# Altium schematic symbol library RetroPie-CM3.SchLib: 18 symbols
Pins are listed as number, name and electrical type; pins without a type are passive.

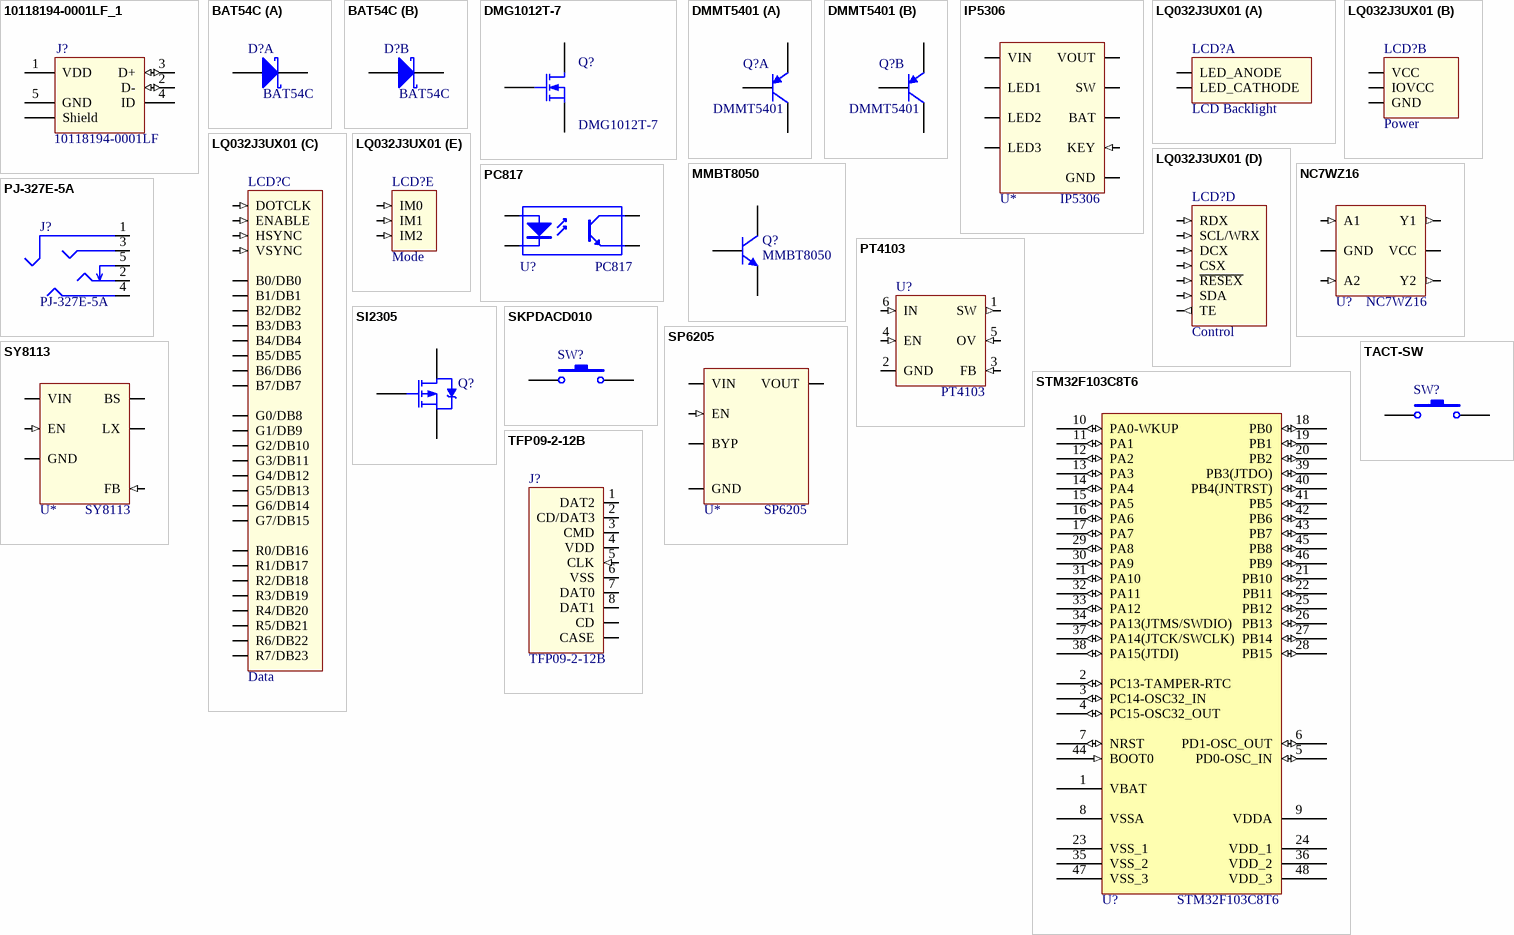
[diagram p0: symbols 10118194-0001LF_1 to TFP09-2-12B]

## 10118194-0001LF_1
designator J?, comment 10118194-0001LF
Conn Micro USB Type B RCP 5 POS 0.65mm Solder RA SMD 5 Terminal 1 Port T/R; MF: FCI; RS: 714-2347; Availability: Good; Price: 0.23 USD; MP: 10118194-0001LF; Package: DIP-4 FCI; Value: *
footprint 10103594-0001LF (Amphenol FCI Right Angle SMT Type B Version 2.0 Micro USB Connector Socket, 100 V ac, 1.8A)
pins: 1 VDD (power), 2 D- (io), 3 D+ (io), 4 ID, 5 GND (power), 6 Shield (power), 7 Shield (power), 8 Shield (power), 9 Shield (power)

## BAT54C
designator D?
Dual Schottky Diode Common Cathode; Published: 8-Jun-2000; LatestRevisionDate: 17-Jul-2002; LatestRevisionNote: Re-released for DXP Platform.; PackageVersion: Sep-1996; PackageReference: SMC; Publisher: Altium Limited; PackageDescription: DO-214-AB/SMC; 2 C-Bend Leads; Body 7.9 x 5.9 mm, inc. leads (LxW); Code_JEDEC: DO-214-AB
simulation model DIODE (Diode)
signal-integrity model Diode
footprint SOT23-3N (SOT23, 3-Leads, Body 2.9x1.3mm, Pitch 0.95mm, Lead Span 2.5mm, IPC Medium Density)
part A pins: 1 A, 3 K
part B pins: 2 A, 3 K

## DMG1012T-7
designator Q?
MOSFET N-Channel 20V 0.63A SOT523 Diodes Inc DMG1012T-7 N-channel MOSFET Transistor, 0.63 A, 20 V, 3-Pin SOT-523; Manufacturer_Name: Diodes Inc.; Geometry.Height: 0.8mm; Supplier_Name: RS; RS Part Number: 7514064; Manufacturer_Part_Number: DMG1012T-7; Allied_Number: *; Other Part Number: *; Datasheet Link: https://www.diodes.com/assets/Datasheets/ds31783.pdf; 3D Package: *
footprint SOT50P160X80-3N
pins: 1 G, 2 S, 3 D

## DMMT5401
designator Q?
Dual PNP Matched BJTs
footprint SOT26A-6L (SOT23, 6-Leads, Body 2.9x1.7mm, Pitch 0.95mm, Lead Span 2.8mm, IPC High Density)
part A pins: 1 C, 2 B, 6 E
part B pins: 3 B, 4 C, 5 E

## IP5306
designator U*
USB PMIC
footprint ESOP8 (ESOP8 for IP5306 PMIC)
pins: 1 VIN (power), 2 LED1 (io), 3 LED2 (io), 4 LED3 (io), 5 KEY (in), 6 BAT (power), 7 SW (io), 8 VOUT (power), 9 GND (power)

## LQ032J3UX01
designator LCD?  (value not drawn)
LQ032J3UX01 320*480 3.2" IPS LCD Screen; ComponentLink1Description: Source; ComponentLink1URL: https://item.taobao.com/item.htm?id=555728678341
part A pins: 1 LED_ANODE (power), 2 LED_CATHODE (power)
part B pins: 3 GND (power), 4 VCC (power), 5 IOVCC (power), 7 GND (power), 16 GND (power), 25 GND (power), 34 GND (power), 36 GND (power), 49 GND (power)
part C pins: 8 B0/DB0 (io), 9 B1/DB1 (io), 10 B2/DB2 (io), 11 B3/DB3 (io), 12 B4/DB4 (io), 13 B5/DB5 (io), 14 B6/DB6 (io), 15 B7/DB7 (io), 17 G0/DB8 (io), 18 G1/DB9 (io), 19 G2/DB10 (io), 20 G3/DB11 (io), 21 G4/DB12 (io), 22 G5/DB13 (io), 23 G6/DB14 (io), 24 G7/DB15 (io), 26 R0/DB16 (io), 27 R1/DB17 (io), 28 R2/DB18 (io), 29 R3/DB19 (io), 30 R4/DB20 (io), 31 R5/DB21 (io), 32 R6/DB22 (io), 33 R7/DB23 (io), 35 DOTCLK (in), 37 ENABLE (in), 38 HSYNC (in), 39 VSYNC (in)
part D pins: 6 TE (out), 40 RDX (in), 41 SCL/WRX (in), 42 DCX (in), 43 CSX (in), 44 ~{RESEX} (in), 45 SDA (in)
part E pins: 46 IM0 (in), 47 IM1 (in), 48 IM2 (in)
part A text: LCD Backlight
part B text: Power
part C text: Data
part D text: Control
part E text: Mode

## MMBT8050
designator Q?
NPN General Purpose Amplifier; Published: 8-Jun-2000; LatestRevisionDate: 15-Jan-2003; LatestRevisionNote: PCB Footprint 'BCY-W3/D4.7' replaced; DatasheetVersion: 1997; PackageVersion: Sep-1998; PackageReference: SOT23; Publisher: Altium Limited; PackageDescription: TO, Flat Index; 3 In-Line, Axial Leads; Body Dia. 4.5mm; Leads 0.51 x 0.48 mm (max); ComponentLink1Description: Manufacturer Link; ComponentLink1URL: http://www.fairchildsemi.com/; ComponentLink2Description: Datasheet; ComponentLink2URL: http://www.fairchildsemi.com/ds/2N%2F2N3904.pdf
footprint SOT23-3N (SOT23, 3-Leads, Body 2.9x1.3mm, Pitch 0.95mm, Lead Span 2.5mm, IPC Medium Density)
pins: 1 B, 2 E, 3 C

## NC7WZ16
designator U?
UHS Dual Buffer
footprint SC-88
pins: 1 A1 (in), 2 GND (power), 3 A2 (in), 4 Y2 (out), 5 VCC (power), 6 Y1 (out)

## PC817
designator U?
4-Pin Phototransistor Optocoupler; Published: 24-Mar-1999; LatestRevisionDate: 04-Mar-2005; LatestRevisionNote: Sch pins 3 & 4 Swapped.; DatasheetVersion: Nov-2003; PackageReference: DIP-4; Publisher: Altium Limited
footprint PC817
pins: 1 A "Anode", 2 K "Cathode", 3 E "Emitter", 4 C "Collector"

## PJ-327E-5A
designator J?
TRRS 3.5mm Socket SMT
footprint PJ-327E (TRRS 3.5mm Socket)
pins: 1, 2, 3, 4, 5

## PT4103
designator U?
Constant Current LED Step-Up Converter
footprint SOT26A-6L (SOT23, 6-Leads, Body 2.9x1.7mm, Pitch 0.95mm, Lead Span 2.8mm, IPC High Density)
pins: 1 SW (out), 2 GND (power), 3 FB (in), 4 EN (in), 5 OV (in), 6 IN (in)

## SI2305
designator Q?
P-Channel Power MOSFET; Note: Pin 4 not drawn and electrically connected to Pin 2.; Published: 8-Jun-2000; LatestRevisionDate: 17-Jul-2002; LatestRevisionNote: Re-released for DXP Platform.; DatasheetVersion: PD-9.390D; PackageVersion: Feb-1997; PackageReference: TO-220AB; Publisher: Altium Limited; PackageDescription: TO, Thru-Hole, Vertical, Heatsink Mounted; 3 In-Line Leads; Pitch 2.54 mm; ComponentLink1Description: Manufacturer Link; ComponentLink1URL: http://www.irf.com/
simulation model IRF9510 (Spice Subcircuit)
footprint SOT23-3N (SOT23, 3-Leads, Body 2.9x1.3mm, Pitch 0.95mm, Lead Span 2.5mm, IPC Medium Density)
pins: 1 G, 2 S, 3 D

## SKPDACD010
designator SW?
ALPS Tacatile Switch; Published: 24-Mar-1999; LatestRevisionDate: 17-Jul-2002; LatestRevisionNote: Re-released for DXP Platform.; PackageReference: SPST-2; Publisher: Altium Limited; PackageDescription: Switch; 2 Leads
footprint ALPS_8X8X5.5
footprint ALPS_8X8X5.5-SIDE
pins: 1, 2

## SP6205
designator U*
footprint SOT23-5AL (SOT23, 5-Leads, Body 2.9x1.6mm, Pitch 0.95mm, Lead Span 2.8mm, IPC High Densit)
pins: 1 VIN (power), 2 GND (power), 3 EN (in), 4 BYP (power), 5 VOUT (power)

## STM32F103C8T6
designator U?
Medium-density performance line ARM-based 32-bit MCU with 64 or 128 KB Flash, USB, CAN, 7 timers, 2 ADCs, 9 com. interfaces
footprint SQFP50P900X900-48N (Shrink QFP, 48-Leads, Body 7x7mm, Pitch 0.5mm, IPC Medium Density)
pins: 1 VBAT (power), 2 PC13-TAMPER-RTC (io), 3 PC14-OSC32_IN (io), 4 PC15-OSC32_OUT (io), 5 PD0-OSC_IN (io), 6 PD1-OSC_OUT (io), 7 NRST (io), 8 VSSA (power), 9 VDDA (power), 10 PA0-WKUP (io), 11 PA1 (io), 12 PA2 (io), 13 PA3 (io), 14 PA4 (io), 15 PA5 (io), 16 PA6 (io), 17 PA7 (io), 18 PB0 (io), 19 PB1 (io), 20 PB2 (io), 21 PB10 (io), 22 PB11 (io), 23 VSS_1 (power), 24 VDD_1 (power), 25 PB12 (io), 26 PB13 (io), 27 PB14 (io), 28 PB15 (io), 29 PA8 (io), 30 PA9 (io), 31 PA10 (io), 32 PA11 (io), 33 PA12 (io), 34 PA13(JTMS/SWDIO) (io), 35 VSS_2 (power), 36 VDD_2 (power), 37 PA14(JTCK/SWCLK) (io), 38 PA15(JTDI) (io), 39 PB3(JTDO) (io), 40 PB4(JNTRST) (io), 41 PB5 (io), 42 PB6 (io), 43 PB7 (io), 44 BOOT0 (in), 45 PB8 (io), 46 PB9 (io), 47 VSS_3 (power), 48 VDD_3 (power)

## SY8113
designator U*
footprint SOT26A-6L (SOT23, 6-Leads, Body 2.9x1.7mm, Pitch 0.95mm, Lead Span 2.8mm, IPC High Density)
pins: 1 BS (power), 2 GND (power), 3 FB (in), 4 EN (in), 5 VIN (power), 6 LX (power)

## TACT-SW
designator SW?
6x6 Tacatile Switch; Published: 24-Mar-1999; LatestRevisionDate: 17-Jul-2002; LatestRevisionNote: Re-released for DXP Platform.; PackageReference: SPST-2; Publisher: Altium Limited; PackageDescription: Switch; 2 Leads
footprint TACT-SW (Generic Tactile Switch)
pins: 1, 2

## TFP09-2-12B
designator J?
Micro SD Card Connector
footprint TFP-09-2-12B
pins: 1 DAT2 (io), 2 CD/DAT3 (io), 3 CMD (io), 4 VDD (power), 5 CLK (in), 6 VSS (power), 7 DAT0 (io), 8 DAT1 (io), CD, G CASE